# EAGLE library part _IC_SHREG_SIPO_(74HC595D) (library SamacSys_Parts)
8-bit serial-in, serial or parallel-out shift register with output latches 3-state Source: Datasheet <https://componentsearchengine.com/Datasheets/2/74HC595D,118.pdf>
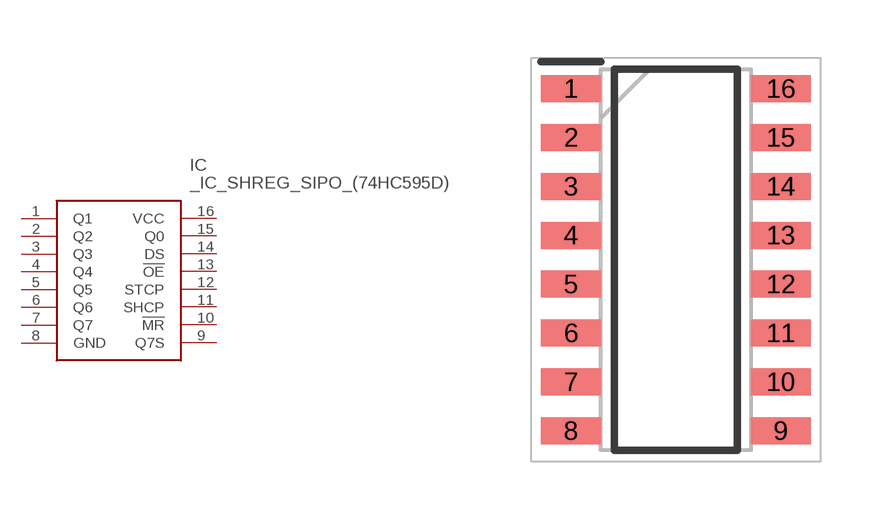
[diagram p6: symbol with the pads of SOIC127P600X175-16N; footprint SOIC127P600X175-16N]

Designator prefix IC

## _IC_SHREG_SIPO_(74HC595D) (DESCRIPTION: 8-bit serial-in, serial or parallel-out shift register with output latches 3-state; HEIGHT: 1.75mm; MANUFACTURER_NAME: Nexperia; MANUFACTURER_PART_NUMBER: 74HC595D,118; MOUSER_PART_NUMBER: 771-74HC595D-T; MOUSER_PRICE-STOCK: https://www.mouser.co.uk/ProductDetail/Nexperia/74HC595D118?qs=P62ublwmbi8l0ry%252BN2uyHg%3D%3D)  [SOIC127P600X175-16N]
1  Q1
2  Q2
3  Q3
4  Q4
5  Q5
6  Q6
7  Q7
8  GND
9  Q7S
10  !MR
11  SHCP
12  STCP
13  !OE
14  DS
15  Q0
16  VCC

## Footprint SOIC127P600X175-16N (pad centres in mm)
so-16
smd 1.55 x 0.7: 1 -2.725,4.445; 2 -2.725,3.175; 3 -2.725,1.905; 4 -2.725,0.635; 5 -2.725,-0.635; 6 -2.725,-1.905; 7 -2.725,-3.175; 8 -2.725,-4.445; 9 2.725,-4.445; 10 2.725,-3.175; 11 2.725,-1.905; 12 2.725,-0.635; 13 2.725,0.635; 14 2.725,1.905; 15 2.725,3.175; 16 2.725,4.445